# Altium schematic symbol library TPS40057.SchLib: 28 symbols
Pins are listed as number, name and electrical type; pins without a type are passive.

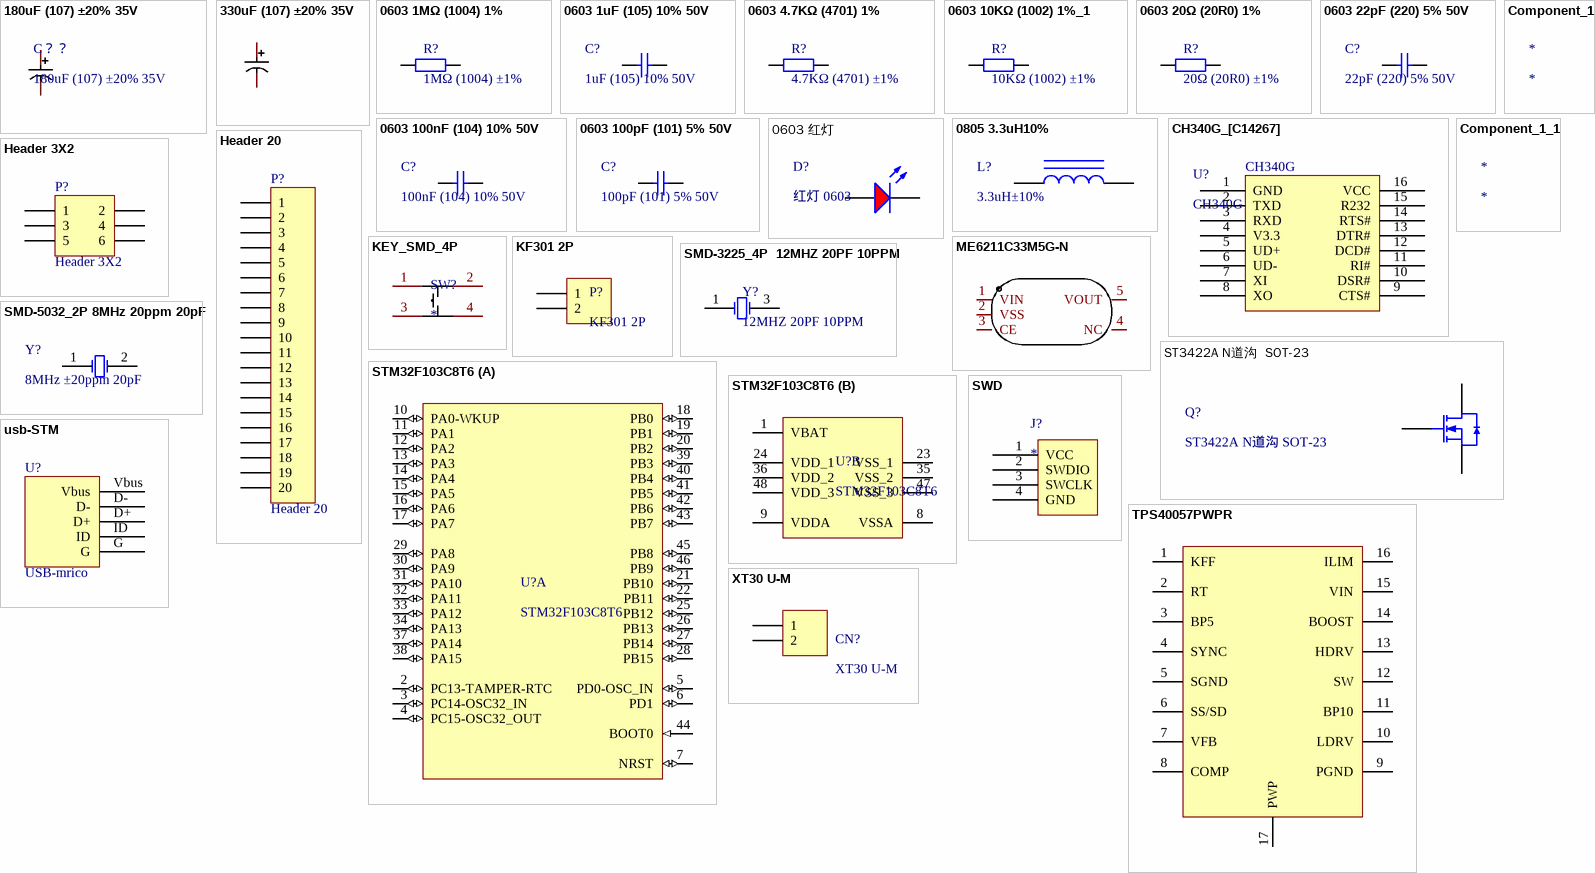
[diagram p0: symbols 180uF (107) ±20% 35V to XT30 U-M]

## 180uF (107) ±20% 35V
designator C？？
电解电容
footprint CAP-SMD_BD8.0-L8.3-W8.3-FD
pins: 1, 2

## 330uF (107) ±20% 35V
designator C??  (value not drawn)
电解电容; Manufacturer: ROQANG(容强); Symbol: RVT1V331M1010-C72510; Device: RVT1V331M1010; Add into BOM: yes; φD: 10mm; L: 10.2mm; Lifetime @ Temp: 2000hrs@105℃; Name: 330uF; LCSC Part Name: 330uF ±20% 35V; Supplier Part: C72510; Manufacturer Part: RVT1V331M1010; Supplier Footprint: SMD,D10xL10.2mm; JLCPCB Part Class: Extended Part; Datasheet: https://atta.szlcsc.com/upload/public/pdf/source/20170217/1487312292321.pdf; Supplier: LCSC; Convert to PCB: yes; Value: 330uF; Tolerance: ±20%; Rated Voltage: 35V; Ripple Current: -; Equivalent Series Resistance(ESR): -; Operating Temperature: -45℃~+105℃
footprint CAP-SMD_BD10.0-L10.3-W10.3-LS11.3-FD
3D model CAP-SMD_BD10.0-L10.3-W10.3-LS11.3-FD
pins: 1, 2

## 0603 1MΩ (1004) 1%
designator R?, comment 1MΩ (1004) ±1%
贴片电阻; ComponentLink1Description: 供应商链接; ComponentLink1URL: http://www.szlcsc.com/product/details_23662.html; Package: 0603; Supplier: LC; SuppliersPartNumber: C22935
footprint 0603_R
pins: 1, 2

## 0603 1uF (105) 10% 50V
designator C?, comment 1uF (105) 10% 50V
贴片电容; ComponentLink1Description: 供应商链接; ComponentLink1URL: http://www.szlcsc.com/product/details_16531.html; Package: 0603; Supplier: LC; SuppliersPartNumber: C15849
footprint 0603_C
pins: 1, 2

## 0603 4.7KΩ (4701) 1%
designator R?, comment 4.7KΩ (4701) ±1%
贴片电阻; ComponentLink1Description: 供应商链接; ComponentLink1URL: http://www.szlcsc.com/product/details_23889.html; Package: 0603; Supplier: LC; SuppliersPartNumber: C23162
footprint 0603_R
pins: 1, 2

## 0603 10KΩ (1002) 1%_1
designator R?, comment 10KΩ (1002) ±1%
贴片电阻; ComponentLink1Description: 供应商链接; ComponentLink1URL: http://www.szlcsc.com/product/details_26547.html; Package: 0603; Supplier: LC; SuppliersPartNumber: C25804
footprint 0603_R
pins: 1, 2

## 0603 20Ω (20R0) 1%
designator R?, comment 20Ω (20R0) ±1%
贴片电阻; ComponentLink1Description: 供应商链接; ComponentLink1URL: http://www.szlcsc.com/product/details_23677.html; Package: 0603; Supplier: LC; SuppliersPartNumber: C22950
footprint 0603_R
pins: 1, 2

## 0603 22pF (220) 5% 50V
designator C?, comment 22pF (220) 5% 50V
贴片电容; ComponentLink1Description: 供应商链接; ComponentLink1URL: http://www.szlcsc.com/product/details_2005.html; Package: 0603; Supplier: LC; SuppliersPartNumber: C1653
footprint 0603_C
pins: 1, 2

## 0603 100nF (104) 10% 50V
designator C?, comment 100nF (104) 10% 50V
贴片电容; ComponentLink1Description: 供应商链接; ComponentLink1URL: http://www.szlcsc.com/product/details_15331.html; Package: 0603; Supplier: LC; SuppliersPartNumber: C14663
footprint 0603_C
pins: 1, 2

## 0603 100pF (101) 5% 50V
designator C?, comment 100pF (101) 5% 50V
贴片电容; ComponentLink1Description: 供应商链接; ComponentLink1URL: http://www.szlcsc.com/product/details_15530.html; Package: 0603; Supplier: LC; SuppliersPartNumber: C14858
footprint 0603_C
pins: 1, 2

## 0603 红灯
designator D?, comment 红灯 0603
发光二极管; ComponentLink1Description: 供应商链接; ComponentLink1URL: http://www.szlcsc.com/product/details_2659.html; Package: 0603; Supplier: LC; SuppliersPartNumber: C2286
footprint 0603_LED_S1
pins: A, K

## 0805 3.3uH10%
designator L?, comment 3.3uH±10%
贴片电感; ComponentLink1Description: 供应商链接; ComponentLink1URL: http://www.szlcsc.com/product/details_52738.html; Package: 0805; Supplier: LC; SuppliersPartNumber: C51725
footprint IND-SMD_L7.0-W6.6
pins: 1, 2

## CH340G_[C14267]
designator U?, comment CH340G
USB; ComponentLink1Description: 供应商链接; ComponentLink1URL: http://www.szlcsc.com/product/details_14927.html; Package: SOIC-16_150mil; Supplier: LC; SuppliersPartNumber: C14267
footprint SOIC-16_150mil (Footprint not found)
pins: 1 GND, 2 TXD, 3 RXD, 4 V3.3, 5 UD+, 6 UD-, 7 XI, 8 XO, 9 CTS#, 10 DSR#, 11 RI#, 12 DCD#, 13 DTR#, 14 RTS#, 15 R232, 16 VCC

## Component_1
designator *

## Component_1_1
designator *

## Header 3X2
designator P?
Header, 3-Pin, Dual row; LatestRevisionDate: 17-Jul-2002; LatestRevisionNote: Re-released for DXP Platform.; Publisher: Altium Limited
footprint HDR2X3 (Connector; Header; 3x2 Position)
pins: 1, 2, 3, 4, 5, 6

## Header 20
designator P?
Header, 20-Pin; LatestRevisionDate: 17-Jul-2002; LatestRevisionNote: Re-released for DXP Platform.; Publisher: Altium Limited
footprint HDR1X20 (Connector; Header; 20 Position)
pins: 1, 2, 3, 4, 5, 6, 7, 8, 9, 10, 11, 12, 13, 14, 15, 16, 17, 18, 19, 20

## KEY_SMD_4P
designator SW?
footprint SW-SMD_4P-L4.2-W3.3-P2.15-LS5.1 (Footprint not found)
pins: 1, 2, 3, 4

## KF301 2P
designator P?
电源插针
footprint KF301 2P
pins: 1, 2

## ME6211C33M5G-N
designator LDO??  (value not drawn)
Manufacturer: MICRONE(南京微盟); Add into BOM: yes; Voltage - Input (Max): 6V; Current - Supply (Max): 60μA; Voltage Dropout (Max): 260mV @ 200mA(typ); Output Current (Max): 500mA; Output Configuration: 正; Ripple Rejection (PSRR): 70dB ~ 62dB(1kHz ~ 10kHz); Output Type: 固定; Number of Output Channels: 1; Voltage - Output (Fixed): 3.3V; Name: ME6211C33M5G-N; Symbol: ME6211C33M5G-N; Device: ME6211C33M5G-N; LCSC Part Name: ME6211C33M5G-N; Supplier Part: C82942; Manufacturer Part: ME6211C33M5G-N; Supplier Footprint: SOT-23-5; JLCPCB Part Class: Extended Part; Datasheet: https://atta.szlcsc.com/upload/public/pdf/source/20170918/C82942_1505727073070976520.pdf; Supplier: LCSC; Convert to PCB: yes; Voltage - Output (adj): -; Quiescent Current (Iq): -; Operating Temperature: -40℃~150℃; Enabling feet: -
footprint SOT-23-5_L3.0-W1.7-P0.95-LS2.8-BL (Footprint not found)
3D model SOT-23-5_L2.9-W1.6-H1.1-LS2.8-P0.95
pins: 1 VIN, 2 VSS, 3 CE, 4 NC, 5 VOUT

## SMD-3225_4P  12MHZ 20PF 10PPM
designator Y?, comment 12MHZ 20PF 10PPM
贴片晶振; ComponentLink1Description: 供应商链接; ComponentLink1URL: http://www.szlcsc.com/product/details_9522.html; Package: SMD-3225_4P; Supplier: LC; SuppliersPartNumber: C9002
footprint SMD-3225_4P (Footprint not found)
pins: 1 OSC1, 3 OSC2

## SMD-5032_2P 8MHz 20ppm 20pF
designator Y?, comment 8MHz ±20ppm 20pF
贴片晶振; ComponentLink1Description: 供应商链接; ComponentLink1URL: http://www.szlcsc.com/product/details_117214.html; Package: SMD-5032_2P; Supplier: LC; SuppliersPartNumber: C115962
footprint SMD-5032_2P
pins: 1 OSC1, 2 OSC2

## ST3422A N道沟  SOT-23
designator Q?, comment ST3422A N道沟 SOT-23
MOS(场效应管); ComponentLink1Description: 供应商链接; ComponentLink1URL: http://www.szlcsc.com/product/details_21629.html; Package: SOT-23; Supplier: LC; SuppliersPartNumber: C20917
footprint SOT-23-3_L2.9-W1.6-P1.90-LS2.8-BR
pins: 1 G, 2 S, 3 D

## STM32F103C8T6
designator U?
ARM; ComponentLink1Description: 供应商链接; ComponentLink1URL: http://www.szlcsc.com/product/details_9243.html; Package: LQFP-48_7x7x05P; Supplier: LC; SuppliersPartNumber: C8734
footprint LQFP-48_7x7x05P (Footprint not found)
part A pins: 2 PC13-TAMPER-RTC (io), 3 PC14-OSC32_IN (io), 4 PC15-OSC32_OUT (io), 5 PD0-OSC_IN (io), 6 PD1 (io), 7 NRST (io), 10 PA0-WKUP (io), 11 PA1 (io), 12 PA2 (io), 13 PA3 (io), 14 PA4 (io), 15 PA5 (io), 16 PA6 (io), 17 PA7 (io), 18 PB0 (io), 19 PB1 (io), 20 PB2 (io), 21 PB10 (io), 22 PB11 (io), 25 PB12 (io), 26 PB13 (io), 27 PB14 (io), 28 PB15 (io), 29 PA8 (io), 30 PA9 (io), 31 PA10 (io), 32 PA11 (io), 33 PA12 (io), 34 PA13 (io), 37 PA14 (io), 38 PA15 (io), 39 PB3 (io), 40 PB4 (io), 41 PB5 (io), 42 PB6 (io), 43 PB7 (io), 44 BOOT0 (in), 45 PB8 (io), 46 PB9 (io)
part B pins: 1 VBAT (power), 8 VSSA (power), 9 VDDA (power), 23 VSS_1 (power), 24 VDD_1 (power), 35 VSS_2 (power), 36 VDD_2 (power), 47 VSS_3 (power), 48 VDD_3 (power)

## SWD
designator J?
pins: 1 VCC, 2 SWDIO, 3 SWCLK, 4 GND

## TPS40057PWPR
designator U??, comment TPS40057PWP  (value not drawn)
电源IC; Manufacturer: TI(德州仪器); Add into BOM: yes; Function: 降压型; Number of Outputs: 1; Input Voltage: 8V~40V; Synchronous Rectification: 是; Topology: 降压式; Switching Frequency: 1MHz; Duty Cycle (Max): 94%; Name: TPS40057PWP; Symbol: TPS40057PWP; Device: TPS40057PWP; LCSC Part Name: 降压型 8V~40V 1MHz; Supplier Part: C1529919; Manufacturer Part: TPS40057PWP; Supplier Footprint: TSSOP-16-EP; JLCPCB Part Class: Extended Part; Datasheet: https://www.ti.com/cn/lit/gpn/tps40054; Supplier: LCSC; Convert to PCB: yes; Operating Temperature: -40℃~+85℃@(TA)
footprint TSSOP-16_L5.0-W4.4-P0.65-LS6.4-BL-EP
pins: 1 KFF, 2 RT, 3 BP5, 4 SYNC, 5 SGND, 6 SS/SD, 7 VFB, 8 COMP, 9 PGND, 10 LDRV, 11 BP10, 12 SW, 13 HDRV, 14 BOOST, 15 VIN, 16 ILIM, 17 PWP

## usb-STM
designator U?, comment USB-mrico
footprint Micro_USB (Footprint not found)
pins: D+, D-, G, ID, Vbus

## XT30 U-M
designator CN?
模型插头轻量版锂电池插头
footprint CONN-TH_XT30U-M
pins: 1, 2